# Altium integrated library EVQ-11L07K.IntLib: 1 symbol
Pins are listed as number, name and electrical type; pins without a type are passive.

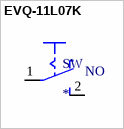
[diagram p0: symbol EVQ-11L07K]

## EVQ-11L07K
designator SW
Tactile Switch SPST-NO Top Actuated Through Hole; MP: EVQ-11L07K; MF: Panasonic; Price: None; SnapEDA_Link: https://www.snapeda.com/parts/EVQ-11L07K/Panasonic%20Electronic%20Components/view-part/310716/?ref=snap; Availability: Unavailable; Value: *; Package: None
footprint EVQ11
pins: 1 P, 2 S
text: NO